# Altium footprint library PCBLIB1.PCBLIB: 42 footprints (part 1 of 3)
Each footprint in its own frame and in the unit in brackets; x right, y up, seen from the top. Pads: shape width x height; smd on the part's side, far side on the other; paste and mask are expansions set on the pad; w line width, h text height; cw(c..) or ccw(c..) is an arc to the next point about the centre after c.
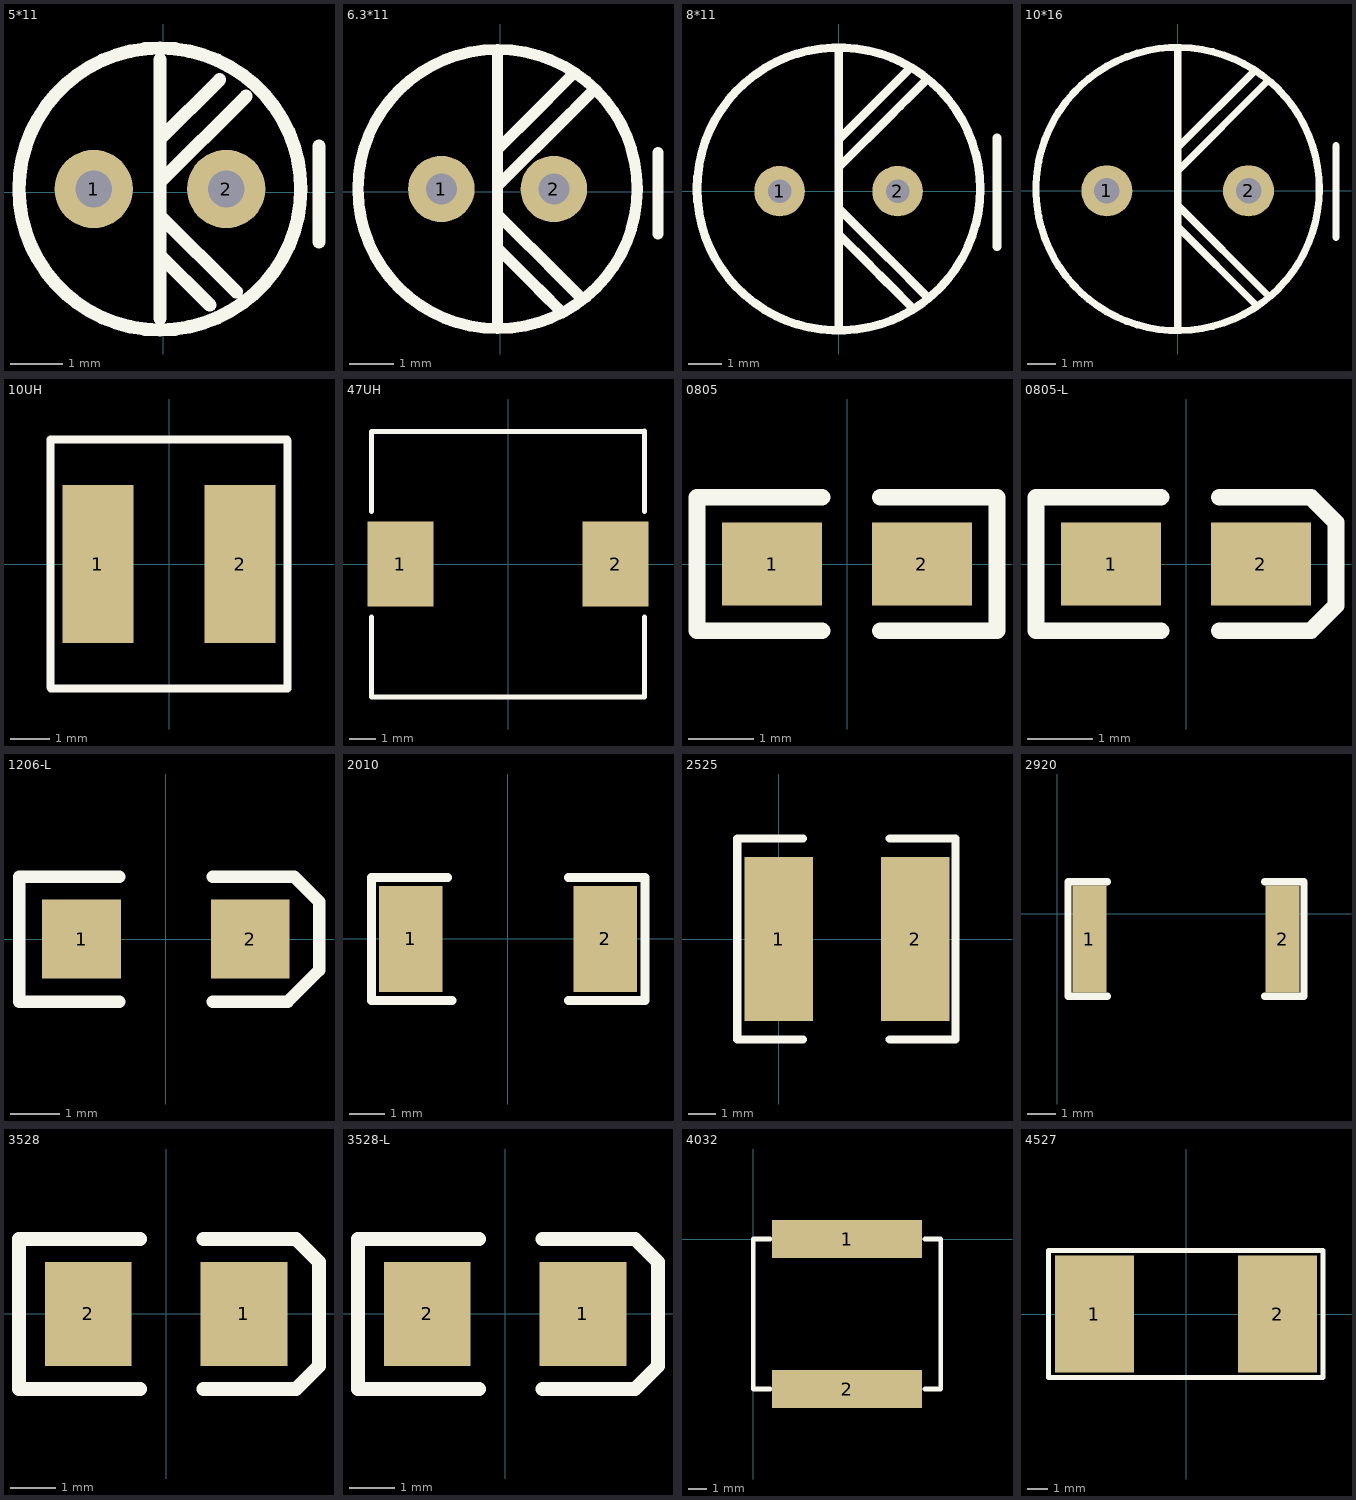
[diagram p0: the footprints below, top view; thin cyan lines are the x and y axes]

## 5*11 [mm]
pads (2):
  round 1.5 hole 0.7: 1(-1.333,0.064) 2(1.206,0.064)
TopOverlay:
  circle w0.254: c-0.064,0.064 r2.7
  lines w0.254: -0.064,-2.413 -0.064,2.54 ; -0.064,-1.206 0.889,-2.159 ; -0.064,-0.445 1.397,-1.905 ; -0.064,0.191 1.587,1.841 ; -0.064,1.016 1.079,2.159 ; 2.984,-0.953 2.984,0.889

## 6.3*11 [mm]
pads (2):
  round 1.5 hole 0.7: 1(-1.333,0.064) 2(1.206,0.064)
TopOverlay:
  circle w0.254: c-0.064,0.064 r3.15
  lines w0.254: -0.064,-3.048 -0.064,3.111 ; -0.064,-1.27 0.889,-2.222 ; -0.064,-0.508 1.397,-1.968 ; -0.064,0.127 1.587,1.778 ; -0.064,0.953 1.079,2.095 ; 0.415,1.431 0.415,1.431 1.651,2.667 ; 0.854,-2.187 1.397,-2.73 ; 1.09,-1.662 1.778,-2.349 ; 1.254,1.444 2.095,2.286 ; 3.556,-0.953 3.556,0.889 ; 1.651,2.667 1.651,2.667

## 8*11 [mm]
pads (2):
  round 1.5 hole 0.7: 1(-1.75,0) 2(1.75,0)
TopOverlay:
  circle w0.254: c0,0.064 r4.2
  lines w0.254: 0,-4.064 0,4.191 ; 0,-1.27 0.953,-2.222 ; 0,-0.508 1.46,-1.968 ; 0,0.699 1.651,2.349 ; 0.035,1.559 1.178,2.702 ; 0.859,2.383 2.095,3.619 ; 0.917,-2.187 1.46,-2.73 ; 1.433,-1.941 2.667,-3.175 ; 1.447,-2.717 2.222,-3.492 ; 1.572,2.271 2.385,3.084 ; 1.823,2.521 2.603,3.302 ; 4.699,-1.651 4.699,1.587

## 10*16 [mm]
pads (2):
  round 1.8 hole 0.9: 1(-2.5,0) 2(2.5,0)
TopOverlay:
  circle w0.254: c0,0.064 r5
  lines w0.254: 0,-4.889 0,5.016 ; 0,-1.27 2.762,-4.032 ; 0,-0.508 3.207,-3.715 ; 0,0.699 3.175,3.873 ; 0.035,1.559 2.699,4.223 ; 5.588,-1.651 5.588,1.587

## 10UH [mm]
pads (2):
  rect 1.8x4 smd: 1(-1.8,0) 2(1.8,0)
TopOverlay:
  lines w0.2: -3,-3.111 -3,3.15 2.984,3.15 ; -2.984,-3.15 2.984,-3.15 ; 3,-3.15 3,3.111

## 47UH [mm]
pads (2):
  rect 2.5x3.2 smd: 1(-4.05,0) 2(4.05,0)
TopOverlay:
  lines w0.2: -5.143,-5 5.143,-5 5.143,-2 ; -5.143,-4.953 -5.143,-2 ; -5.143,2 -5.143,4.953 ; -5.143,5 5.143,5 ; 5.143,2 5.143,5.016

## 0805 [mil]
pads (2):
  rect 60x50 smd: 1(-45,0) 2(45,0)
TopOverlay:
  lines w10: -15,-40 -90,-40 -90,40 -15,40 ; 20,-40 90,-40 90,40 ; 20,40 90,40 ; 60,40 90,40

## 0805-L [mil]
pads (2):
  rect 60x50 smd: 1(-45,0) 2(45,0)
TopOverlay:
  lines w10: -15,-40 -90,-40 -90,40 -15,40 ; 20,-40 75,-40 90,-25 90,25 75,40 ; 20,40 75,40 ; 60,40 75,40

## 1206-L [mm]
pads (2):
  rect 1.6x1.6 smd: 1(-1.714,0) 2(1.714,0)
TopOverlay:
  lines w0.254: -0.953,-1.27 -2.984,-1.27 -2.984,1.27 -0.953,1.27 ; 0.953,-1.27 2.476,-1.27 3.111,-0.635 3.111,0.762 2.603,1.27 0.953,1.27

## 2010 [mm]
pads (2):
  rect 1.8x3 smd: 1(-2.75,0) 2(2.75,0)
TopOverlay:
  lines w0.254: -1.71,1.746 -3.869,1.746 -3.869,-1.746 -1.583,-1.746 ; 1.719,-1.746 3.878,-1.746 3.878,1.746 1.719,1.746

## 2525 [mm]
pads (2):
  rect 2.5x6 smd: 1(0,0) 2(5,0)
TopOverlay:
  lines w0.305: 0.889,-3.683 -1.524,-3.683 -1.524,3.683 0.889,3.683 ; 4.064,-3.683 6.477,-3.683 6.477,3.683 4.064,3.683

## 2920 [mm]
pads (2):
  rect 1.2x3.8 smd: 1(1.143,-0.889) 2(8.001,-0.889)
TopOverlay:
  lines w0.254: 1.778,-2.921 0.381,-2.921 0.381,1.143 1.778,1.143 ; 7.366,-2.921 8.763,-2.921 8.763,1.143 7.366,1.143

## 3528 [mil]
pads (2):
  rect 75x90 smd: 1(67.5,0) 2(-67.5,0)
TopOverlay:
  lines w12: -22.5,-65 -127.5,-65 -127.5,65 -22.5,65 ; 32.5,-65 112.5,-65 132.5,-45 132.5,45 112.5,65 32.5,65

## 3528-L [mil]
pads (2):
  rect 75x90 smd: 1(67.5,0) 2(-67.5,0)
TopOverlay:
  lines w12: -22.5,-65 -127.5,-65 -127.5,65 -22.5,65 ; 32.5,-65 112.5,-65 132.5,-45 132.5,45 112.5,65 32.5,65

## 4032 [mm]
pads (2):
  rect 8x2 smd: 1(5,0) 2(5,-8)
TopOverlay:
  lines w0.254: 0.888,-8 0,-8 0,0 0.889,0 ; 9.144,0 10,0 10,-8 9.145,-8

## 4527 [mm]
pads (2):
  rect 3.94x5.84 smd: 1(-4.575,0) 2(4.575,0)
TopOverlay:
  lines w0.254: -6.861,-3.175 -6.861,3.175 6.855,3.175 6.855,-3.175 -6.861,-3.175